# Altium footprint library MyProject.PcbLib: 34 footprints (part 1 of 3)
Each footprint in its own frame and in the unit in brackets; x right, y up, seen from the top. Pads: shape width x height; smd on the part's side, far side on the other; paste and mask are expansions set on the pad; w line width, h text height; cw(c..) or ccw(c..) is an arc to the next point about the centre after c.
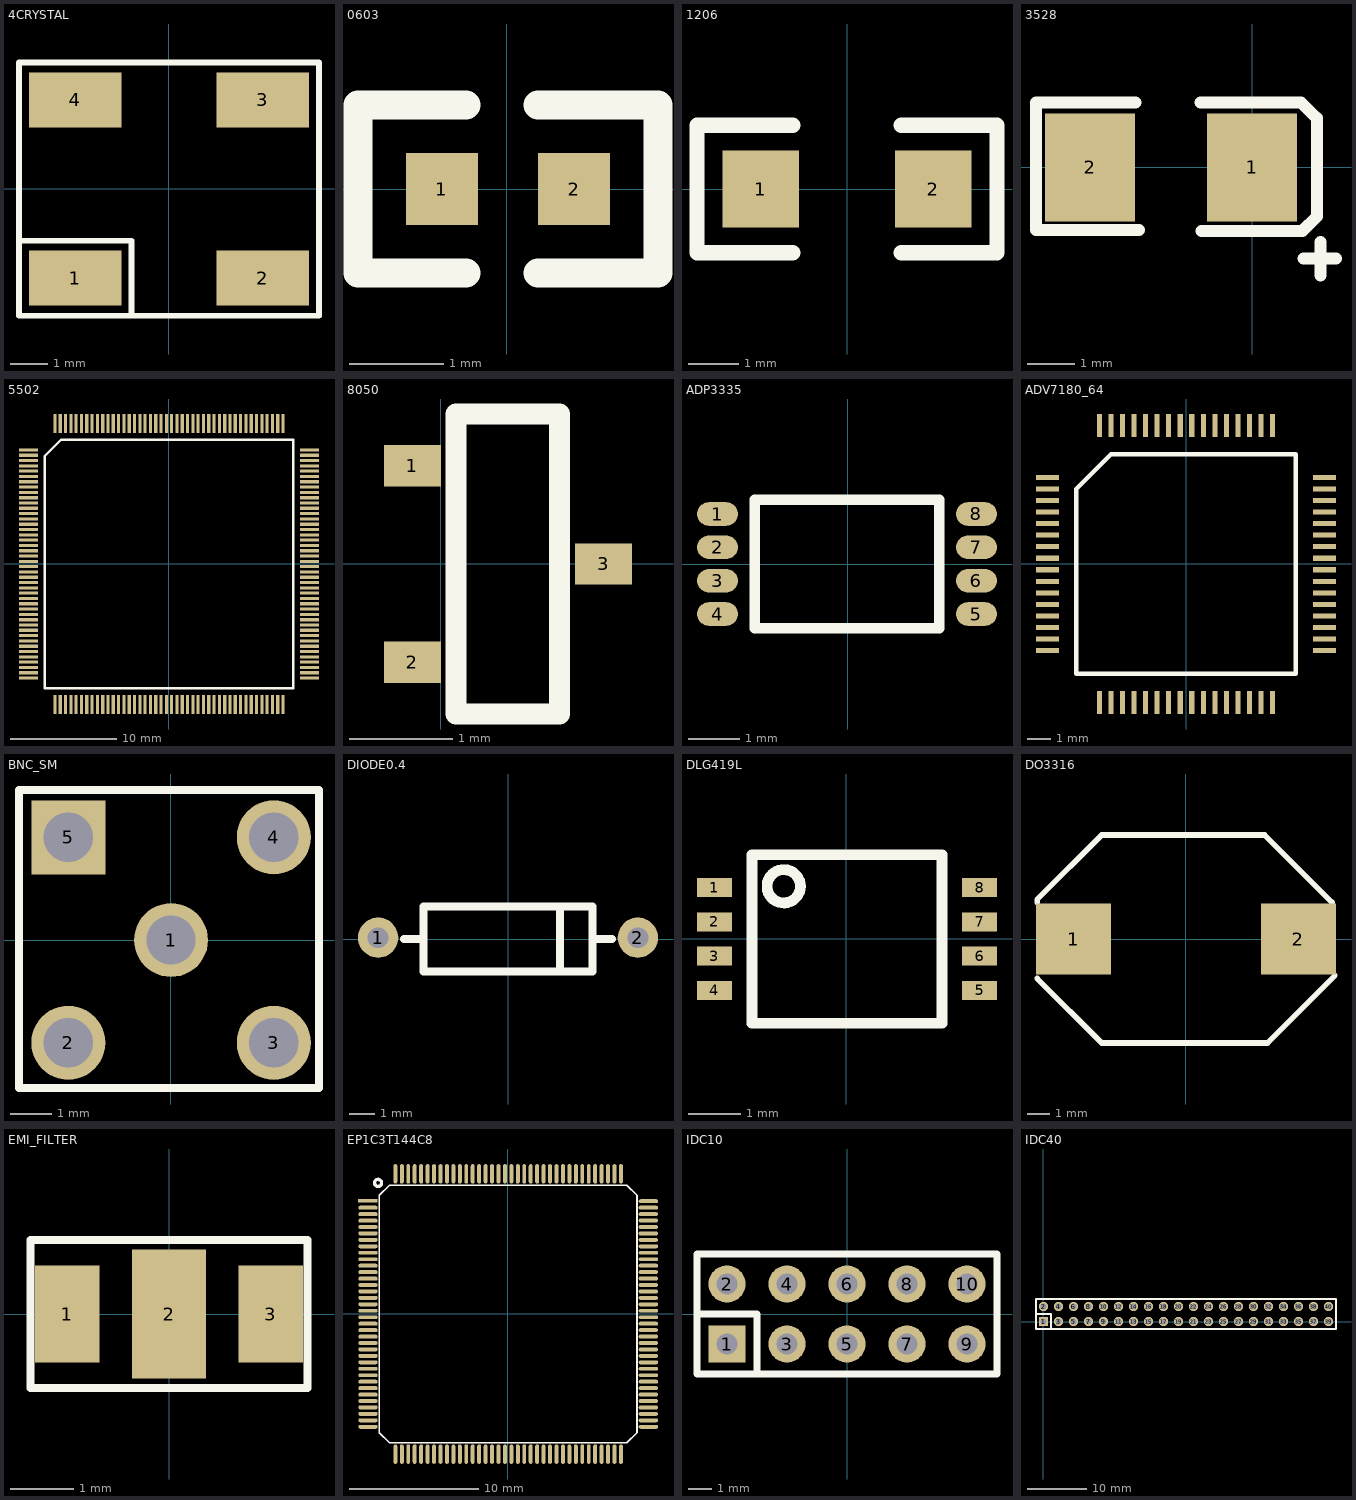
[diagram p0: the footprints below, top view; thin cyan lines are the x and y axes]

## 4CRYSTAL [mm]
pads (4):
  rect 2.5x1.5 smd: 1(-2.54,-2.413) 2(2.54,-2.413) 3(2.54,2.413) 4(-2.54,2.413)
Top Overlay:
  lines w0.152: -4.064,-1.397 -1.016,-1.397 -1.016,-3.429 ; -4.064,-3.429 4.064,-3.429 4.064,3.429 -4.064,3.429 -4.064,-3.429

## 0603 [mil]
pads (2):
  rect 30x30 smd: 1(-27.01,0.13) 2(27.99,0.13)
Top Overlay:
  lines w12: -17.01,-34.87 -62.01,-34.87 -62.01,35.13 -17.01,35.13 ; 12.99,-34.87 62.99,-34.87 62.99,35.13 12.99,35.13

## 1206 [mil]
pads (2):
  rect 60x60 smd: 1(-67.5,0) 2(67.5,0)
Top Overlay:
  lines w12: -42.5,-50 -117.5,-50 -117.5,50 -42.5,50 ; 42.5,-50 117.5,-50 117.5,50 42.5,50

## 3528 [mil]
pads (2):
  rect 75x90 smd: 1(0,0) 2(-135,0)
Top Overlay:
  lines w10: -97,54 -180,54 -180,-52 -94,-52 ; -43,54 41,54 54,41 54,-41 42,-53 -42,-53 ; 43,-76 70,-76 ; 57,-90 57,-62

## 5502 [mil]
pads (176):
  rect 70x11.6 smd: 1(-521.38,423.21) 2(-521.38,403.52) 3(-521.38,383.84) 4(-521.38,364.15) 5(-521.38,344.47) 6(-521.38,324.78) 7(-521.38,305.1) 8(-521.38,285.41) 9(-521.38,265.73) 10(-521.38,246.04) 11(-521.38,226.35) 12(-521.38,206.67) 13(-521.38,186.99) 14(-521.38,167.3) 15(-521.38,147.62) 16(-521.38,127.93) 17(-521.38,108.25) 18(-521.38,88.56) 19(-521.38,68.88) 20(-521.38,49.19) 21(-521.38,29.5) 22(-521.38,9.82) 23(-521.38,-9.86) 24(-521.38,-29.55) 25(-521.38,-49.23) 26(-521.38,-68.92) 27(-521.38,-88.6) 28(-521.38,-108.29) 29(-521.38,-127.97) 30(-521.38,-147.66) 31(-521.38,-167.34) 32(-521.38,-187.03) 33(-521.38,-206.71) 34(-521.38,-226.4) 35(-521.38,-246.08) 36(-521.38,-265.77) 37(-521.38,-285.45) 38(-521.38,-305.14) 39(-521.38,-324.82) 40(-521.38,-344.51) 41(-521.38,-364.19) 42(-521.38,-383.88) 43(-521.38,-403.56) 44(-521.38,-423.25) 89(521.92,-423.25) 90(521.92,-403.56) 91(521.92,-383.88) 92(521.92,-364.19) 93(521.92,-344.51) 94(521.92,-324.82) 95(521.92,-305.14) 96(521.92,-285.45) 97(521.92,-265.77) 98(521.92,-246.08) 99(521.92,-226.4) 100(521.92,-206.71) 101(521.92,-187.03) 102(521.92,-167.34) 103(521.92,-147.66) 104(521.92,-127.97) 105(521.92,-108.29) 106(521.92,-88.6) 107(521.92,-68.92) 108(521.92,-49.23) 109(521.92,-29.55) 110(521.92,-9.86) 111(521.92,9.82) 112(521.92,29.5) 113(521.92,49.19) 114(521.92,68.88) 115(521.92,88.56) 116(521.92,108.25) 117(521.92,127.93) 118(521.92,147.62) 119(521.92,167.3) 120(521.92,186.99) 121(521.92,206.67) 122(521.92,226.35) 123(521.92,246.04) 124(521.92,265.73) 125(521.92,285.41) 126(521.92,305.1) 127(521.92,324.78) 128(521.92,344.47) 129(521.92,364.15) 130(521.92,383.84) 131(521.92,403.52) 132(521.92,423.21)
  rect 11.6x70 smd: 45(-422.96,-521.67) 46(-403.27,-521.67) 47(-383.59,-521.67) 48(-363.9,-521.67) 49(-344.22,-521.67) 50(-324.53,-521.67) 51(-304.85,-521.67) 52(-285.16,-521.67) 53(-265.48,-521.67) 54(-245.79,-521.67) 55(-226.11,-521.67) 56(-206.42,-521.67) 57(-186.74,-521.67) 58(-167.05,-521.67) 59(-147.37,-521.67) 60(-127.68,-521.67) 61(-108,-521.67) 62(-88.31,-521.67) 63(-68.63,-521.67) 64(-48.94,-521.67) 65(-29.26,-521.67) 66(-9.57,-521.67) 67(10.11,-521.67) 68(29.8,-521.67) 69(49.48,-521.67) 70(69.17,-521.67) 71(88.85,-521.67) 72(108.54,-521.67) 73(128.22,-521.67) 74(147.91,-521.67) 75(167.59,-521.67) 76(187.28,-521.67) 77(206.96,-521.67) 78(226.65,-521.67) 79(246.33,-521.67) 80(266.02,-521.67) 81(285.7,-521.67) 82(305.39,-521.67) 83(325.07,-521.67) 84(344.76,-521.67) 85(364.44,-521.67) 86(384.13,-521.67) 87(403.81,-521.67) 88(423.5,-521.67) 133(423.5,521.63) 134(403.81,521.63) 135(384.13,521.63) 136(364.44,521.63) 137(344.76,521.63) 138(325.07,521.63) 139(305.39,521.63) 140(285.7,521.63) 141(266.02,521.63) 142(246.33,521.63) 143(226.65,521.63) 144(206.96,521.63) 145(187.28,521.63) 146(167.59,521.63) 147(147.91,521.63) 148(128.22,521.63) 149(108.54,521.63) 150(88.85,521.63) 151(69.17,521.63) 152(49.48,521.63) 153(29.8,521.63) 154(10.11,521.63) 155(-9.57,521.63) 156(-29.26,521.63) 157(-48.94,521.63) 158(-68.63,521.63) 159(-88.31,521.63) 160(-108,521.63) 161(-127.68,521.63) 162(-147.37,521.63) 163(-167.05,521.63) 164(-186.74,521.63) 165(-206.42,521.63) 166(-226.11,521.63) 167(-245.79,521.63) 168(-265.48,521.63) 169(-285.16,521.63) 170(-304.85,521.63) 171(-324.53,521.63) 172(-344.22,521.63) 173(-363.9,521.63) 174(-383.59,521.63) 175(-403.27,521.63) 176(-422.96,521.63)
Top Overlay:
  lines w7.87: -460.95,-461.24 -460.95,400.76 -400.52,461.2 461.49,461.2 461.49,-461.24 -460.95,-461.24

## 8050 [mm]
pads (3):
  rect 0.55x0.4 smd: 1(-0.275,0.95) 2(-0.275,-0.95) 3(1.575,0)
Top Overlay:
  lines w0.203: 0.146,-1.451 1.15,-1.451 1.15,0.002 1.15,1.45 0.146,1.45 0.146,-1.451

## ADP3335 [mm]
pads (8):
  oval 0.8x0.46 smd: 1(-2.535,0.982) 2(-2.535,0.332) 3(-2.535,-0.318) 4(-2.535,-0.968) 5(2.515,-0.968) 6(2.515,-0.318) 7(2.515,0.332) 8(2.515,0.982)
Top Overlay:
  lines w0.203: -1.81,-1.243 1.79,-1.243 1.79,1.257 -1.81,1.257 -1.81,-1.243

## ADV7180_64 [mm]
pads (64):
  rect 1x0.22 smd: 1(-6.003,3.738) 2(-6.003,3.238) 3(-6.003,2.738) 4(-6.003,2.238) 5(-6.003,1.738) 6(-6.003,1.238) 7(-6.003,0.738) 8(-6.003,0.238) 9(-6.003,-0.262) 10(-6.003,-0.762) 11(-6.003,-1.262) 12(-6.003,-1.762) 13(-6.003,-2.262) 14(-6.003,-2.762) 15(-6.003,-3.262) 16(-6.003,-3.762) 33(5.997,-3.762) 34(5.997,-3.262) 35(5.997,-2.762) 36(5.997,-2.262) 37(5.997,-1.762) 38(5.997,-1.262) 39(5.997,-0.762) 40(5.997,-0.262) 41(5.997,0.238) 42(5.997,0.738) 43(5.997,1.238) 44(5.997,1.738) 45(5.997,2.238) 46(5.997,2.738) 47(5.997,3.238) 48(5.997,3.738)
  rect 0.22x1 smd: 17(-3.753,-6.012) 18(-3.253,-6.012) 19(-2.753,-6.012) 20(-2.253,-6.012) 21(-1.753,-6.012) 22(-1.253,-6.012) 23(-0.753,-6.012) 24(-0.253,-6.012) 25(0.247,-6.012) 26(0.747,-6.012) 27(1.247,-6.012) 28(1.747,-6.012) 29(2.247,-6.012) 30(2.747,-6.012) 31(3.247,-6.012) 32(3.747,-6.012) 49(3.747,5.988) 50(3.247,5.988) 51(2.747,5.988) 52(2.247,5.988) 53(1.747,5.988) 54(1.247,5.988) 55(0.747,5.988) 56(0.247,5.988) 57(-0.253,5.988) 58(-0.753,5.988) 59(-1.253,5.988) 60(-1.753,5.988) 61(-2.253,5.988) 62(-2.753,5.988) 63(-3.253,5.988) 64(-3.753,5.988)
Top Overlay:
  lines w0.203: -4.753,-4.762 -4.753,3.238 -3.253,4.738 4.747,4.738 4.747,-4.762 -4.753,-4.762

## BNC_SM [mm]
pads (5):
  round 1.8 hole 1.2: 1(0.013,0.003) 2(-2.487,-2.497) 3(2.513,-2.497) 4(2.513,2.503)
  rect 1.8x1.8 hole 1.2: 5(-2.487,2.503)
Top Overlay:
  lines w0.203: -3.687,-3.597 -3.687,3.653 3.613,3.653 3.613,-3.597 -3.687,-3.597

## DIODE0.4 [mil]
pads (2):
  round 62 hole 32: 1(-200,2) 2(200,2)
Top Overlay:
  lines w12: -160,0 -130,0 ; 80,-50 80,50 ; 130,0 160,0 ; -130,-50 130,-50 130,50 -130,50 -130,-50

## DLG419L [mm]
pads (8):
  rect 0.66x0.36 smd: 1(-2.503,0.972) 2(-2.503,0.322) 3(-2.503,-0.328) 4(-2.503,-0.978) 5(2.527,-0.978) 6(2.527,-0.328) 7(2.527,0.322) 8(2.527,0.972)
Top Overlay:
  circle w0.203: c-1.188,0.997 r0.316
  lines w0.203: -1.788,-1.603 1.812,-1.603 1.812,1.597 -1.788,1.597 -1.788,-1.603

## DO3316 [mm]
pads (2):
  rect 3.4x3.2 smd: 1(-5.08,0) 2(5.08,0)
Top Overlay:
  lines w0.254: -6.731,-1.778 -3.81,-4.699 -1.905,-4.699 1.524,-4.699 3.683,-4.699 6.731,-1.651 ; -6.731,1.651 -6.731,1.778 -3.81,4.699 -1.905,4.699 ; -2.159,4.699 1.397,4.699 3.556,4.699 6.604,1.651

## EMI_FILTER [mil]
pads (3):
  rect 40x60 smd: 1(-63,0) 3(63,0)
  rect 46x80 smd: 2(0,0)
Top Overlay:
  lines w5: -86,-46 86,-46 86,46 -86,46 -86,-46

## EP1C3T144C8 [mil]
pads (144):
  rect 59.06x12 smd: 1(-428.42,345.78)
  oval 59.05x12 smd: 2(-427.46,324.74) 3(-427.46,305.06) 4(-427.46,285.37) 5(-427.46,265.69) 6(-427.46,246) 7(-427.46,226.32) 8(-427.46,206.63) 9(-427.46,186.95) 10(-427.46,167.26) 11(-427.46,147.58) 12(-427.46,127.89) 13(-427.46,108.21) 14(-427.46,88.52) 15(-427.46,68.84) 16(-427.46,49.15) 17(-427.46,29.47) 18(-427.46,9.78) 19(-427.46,-9.9) 20(-427.46,-29.59) 21(-427.46,-49.27) 22(-427.46,-68.96) 23(-427.46,-88.64) 24(-427.46,-108.33) 25(-427.46,-128.01) 26(-427.46,-147.7) 27(-427.46,-167.38) 28(-427.46,-187.07) 29(-427.46,-206.75) 30(-427.46,-226.44) 31(-427.46,-246.12) 32(-427.46,-265.81) 33(-427.46,-285.49) 34(-427.46,-305.18) 35(-427.46,-324.86) 36(-427.46,-344.55) 73(428.84,-344.55) 74(428.84,-324.86) 75(428.84,-305.18) 76(428.84,-285.49) 77(428.84,-265.81) 78(428.84,-246.12) 79(428.84,-226.44) 80(428.84,-206.75) 81(428.84,-187.07) 82(428.84,-167.38) 83(428.84,-147.7) 84(428.84,-128.01) 85(428.84,-108.33) 86(428.84,-88.64) 87(428.84,-68.96) 88(428.84,-49.27) 89(428.84,-29.59) 90(428.84,-9.9) 91(428.84,9.78) 92(428.84,29.47) 93(428.84,49.15) 94(428.84,68.84) 95(428.84,88.52) 96(428.84,108.21) 97(428.84,127.89) 98(428.84,147.58) 99(428.84,167.26) 100(428.84,186.95) 101(428.84,206.63) 102(428.84,226.32) 103(428.84,246) 104(428.84,265.69) 105(428.84,285.37) 106(428.84,305.06) 107(428.84,324.74) 108(428.84,344.43)
  oval 12x59.05 smd: 37(-343.8,-428.21) 38(-324.12,-428.21) 39(-304.43,-428.21) 40(-284.75,-428.21) 41(-265.06,-428.21) 42(-245.38,-428.21) 43(-225.69,-428.21) 44(-206.01,-428.21) 45(-186.32,-428.21) 46(-166.64,-428.21) 47(-146.95,-428.21) 48(-127.27,-428.21) 49(-107.58,-428.21) 50(-87.9,-428.21) 51(-68.21,-428.21) 52(-48.53,-428.21) 53(-28.84,-428.21) 54(-9.16,-428.21) 55(10.53,-428.21) 56(30.21,-428.21) 57(49.9,-428.21) 58(69.58,-428.21) 59(89.27,-428.21) 60(108.95,-428.21) 61(128.64,-428.21) 62(148.32,-428.21) 63(168.01,-428.21) 64(187.7,-428.21) 65(207.38,-428.21) 66(227.07,-428.21) 67(246.75,-428.21) 68(266.44,-428.21) 69(286.12,-428.21) 70(305.81,-428.21) 71(325.49,-428.21) 72(345.18,-428.21) 109(345.18,428.09) 110(325.49,428.09) 111(305.81,428.09) 112(286.12,428.09) 113(266.44,428.09) 114(246.75,428.09) 115(227.07,428.09) 116(207.38,428.09) 117(187.7,428.09) 118(168.01,428.09) 119(148.32,428.09) 120(128.64,428.09) 121(108.95,428.09) 122(89.27,428.09) 123(69.58,428.09) 124(49.9,428.09) 125(30.21,428.09) 126(10.53,428.09) 127(-9.16,428.09) 128(-28.84,428.09) 129(-48.53,428.09) 130(-68.21,428.09) 131(-87.9,428.09) 132(-107.58,428.09) 133(-127.27,428.09) 134(-146.95,428.09) 135(-166.64,428.09) 136(-186.32,428.09) 137(-206.01,428.09) 138(-225.69,428.09) 139(-245.38,428.09) 140(-265.06,428.09) 141(-284.75,428.09) 142(-304.43,428.09) 143(-324.12,428.09) 144(-343.8,428.09)
Top Overlay:
  circle w10: c-396.7,400.31 r10.83
  lines w5: -393.01,-362.38 -393.01,362.26 -361.63,393.64 363,393.64 394.39,362.26 394.39,-362.38 363,-393.76 -361.63,-393.76 -393.01,-362.38

## IDC10 [mil]
pads (10):
  rect 62x62 hole 35: 1(-200,-50)
  round 62 hole 35: 2(-200,50) 3(-100,-50) 4(-100,50) 5(0,-50) 6(0,50) 7(100,-50) 8(100,50) 9(200,-50) 10(200,50)
Top Overlay:
  lines w12: -250,0 -150,0 -150,-100 ; -250,-100 -250,100 250,100 250,-100 -250,-100

## IDC40 [mil]
pads (40):
  rect 62x62 hole 38: 1(0.42,0.32)
  round 62 hole 38: 2(0.42,100.32) 3(100.42,0.32) 4(100.42,100.32) 5(200.43,0.32) 6(200.43,100.32) 7(300.43,0.32) 8(300.43,100.32) 9(400.43,0.32) 10(400.43,100.32) 11(500.43,0.32) 12(500.43,100.32) 13(600.42,0.32) 14(600.42,100.32) 15(700.42,0.32) 16(700.42,100.32) 17(800.42,0.32) 18(800.42,100.32) 19(900.42,0.32) 20(900.42,100.32) 21(1000.42,0.32) 22(1000.42,100.32) 23(1100.42,0.32) 24(1100.42,100.32) 25(1200.42,0.32) 26(1200.42,100.32) 27(1300.42,0.32) 28(1300.42,100.32) 29(1400.42,0.32) 30(1400.42,100.32) 31(1500.42,0.32) 32(1500.42,100.32) 33(1600.42,0.32) 34(1600.42,100.32) 35(1700.42,0.32) 36(1700.42,100.32) 37(1800.42,0.32) 38(1800.42,100.32) 39(1900.42,0.32) 40(1900.42,100.32)
Top Overlay:
  lines w12: -49.58,50.32 50.42,50.32 50.42,-49.68 ; -49.58,-49.68 1950.42,-49.68 1950.42,150.32 -49.58,150.32 -49.58,-49.68